# Altium footprint library DIP-RL  0607.PCBlib: 52 footprints (part 4 of 4)
Each footprint in its own frame and in the unit in brackets; x right, y up, seen from the top. Pads: shape width x height; smd on the part's side, far side on the other; paste and mask are expansions set on the pad; w line width, h text height; cw(c..) or ccw(c..) is an arc to the next point about the centre after c.
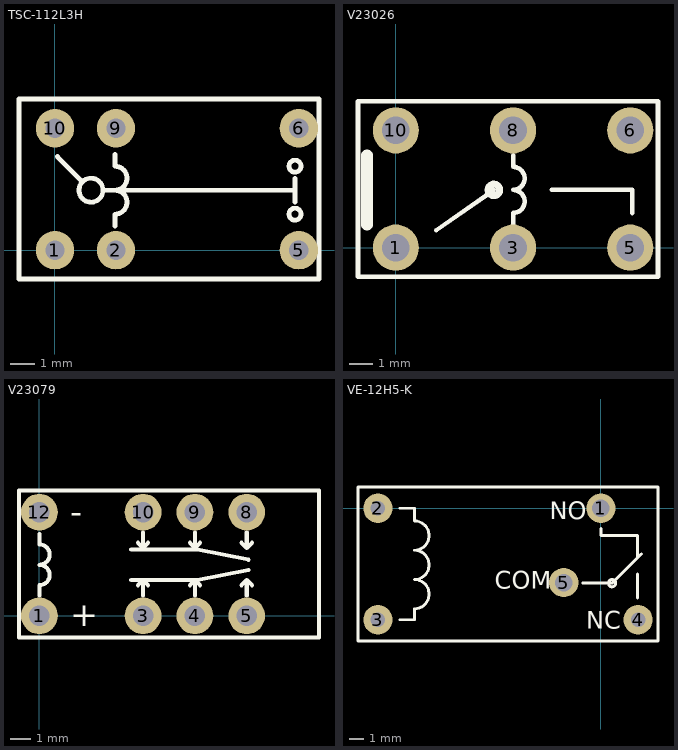
[diagram p3: the footprints below, top view; thin cyan lines are the x and y axes]

## TSC-112L3H [mm] "0720470201"
height 10
pads (6):
  round 1.6 hole 0.8: 1(0,0) 2(2.54,0) 5(10.16,0) 6(10.16,5.08) 9(2.54,5.08) 10(0,5.08)
Top Overlay:
  circle w0.2: c1.5,2.5 r0.5
  circle w0.2: c10,1.5 r0.25
  circle w0.2: c10,3.5 r0.25
  lines w0.2: 0.1,3.9 1.1,2.9 ; 2,2.5 10,2.5 ; 2.5,1 2.5,1.5 ccw(c2.5,2) 2.5,2.5 ccw(c2.5,3) 2.5,3.5 2.5,4 ; 10,2 10,3 ; -1.5,-1.2 11,-1.2 11,6.3 -1.5,6.3 -1.5,-1.2

## V23026 [mm]
pads (6):
  round 2 hole 1.2: 1(0,0) 3(5.08,0) 5(10.16,0) 6(10.16,5.08) 8(5.08,5.08) 10(0,5.08)
Top Overlay:
  circle w0.3: c4.25,2.5 r0.25
  lines w0.2: 1.75,0.75 4.25,2.5 ; 5.08,1 5.08,1.5 ccw(c5.08,2) 5.08,2.5 ccw(c5.08,3) 5.08,3.5 5.08,4 ; 6.75,2.5 10.25,2.5 10.25,1.5 ; -1.64,-1.26 -1.64,6.34 11.36,6.34 11.36,-1.26 -1.64,-1.26
  lines w0.5: -1.25,1 -1.25,4

## V23079 [mm] "0720420604"
height 39
pads (8):
  round 1.8 hole 1: 1(0,0) 3(5.08,0) 4(7.62,0) 5(10.16,0) 8(10.16,5.08) 9(7.62,5.08) 10(5.08,5.08) 12(0,5.08)
Top Overlay:
  lines w0.2: -0.94,5.08 -0.635,5.08 ; 0,1 0,1.5 ccw(c0,2) 0,2.5 ccw(c0,3) 0,3.5 0,4 ; 4.5,1.75 7.75,1.75 10.25,2.25 ; 4.5,3.25 7.75,3.25 10.25,2.75 ; 4.83,1.5 5.08,1.75 ; 4.83,3.58 5.08,3.33 ; 5.08,1 5.08,1.75 ; 5.08,4.08 5.08,3.33 ; 5.33,1.5 5.08,1.75 ; 5.33,3.58 5.08,3.33 ; 7.37,1.5 7.62,1.75 ; 7.37,3.58 7.62,3.33 ; 7.62,1 7.62,1.75 ; 7.62,4.08 7.62,3.33 ; 7.87,1.5 7.62,1.75 ; 7.87,3.58 7.62,3.33 ; 9.91,1.5 10.16,1.75 ; 9.91,3.58 10.16,3.33 ; 10.16,1 10.16,1.75 ; 10.16,4.08 10.16,3.33 ; 10.41,1.5 10.16,1.75 ; 10.41,3.58 10.16,3.33 ; -1,-1.06 13.7,-1.06 13.7,6.14 -1,6.14 -1,-1.06
  text "-" at 1.5,4.5 h1.2
  text "+" at 1.5,-0.5 h1.2

## VE-12H5-K [mm]
height 20.5
pads (5):
  round 2 hole 1.2: 1(0,0) 5(-2.54,-5.08)
  round 2 hole 1: 2(-15.24,0) 3(-15.24,-7.62) 4(2.54,-7.62)
Top Overlay:
  circle w0.2: c0.76,-5.12 r0.25
  lines w0.2: -13.74,-7.62 -12.74,-7.62 ; -13.74,0 -12.74,0 -12.74,-0.87 cw(c-12.74,-1.87) -12.74,-2.87 cw(c-12.74,-3.87) -12.74,-4.87 cw(c-12.74,-5.87) -12.74,-6.87 -12.74,-7.62 ; -1.24,-5.12 0.76,-5.12 2.76,-3.12 ; 0.01,-1.37 0.01,-1.87 2.51,-1.87 2.51,-3.37 ; 2.5,-4.5 2.51,-6.12 ; -16.6,-9.06 3.9,-9.06 3.9,1.44 -16.6,1.44 -16.6,-9.06
  text "NO" at -3.5,-0.75 h1.2
  text "COM" at -7.25,-5.5 h1.2
  text "NC" at -1,-8.25 h1.2